# Altium footprint library All.PcbLib: 21 footprints (part 1 of 2)
Each footprint in its own frame and in the unit in brackets; x right, y up, seen from the top. Pads: shape width x height; smd on the part's side, far side on the other; paste and mask are expansions set on the pad; w line width, h text height; cw(c..) or ccw(c..) is an arc to the next point about the centre after c.
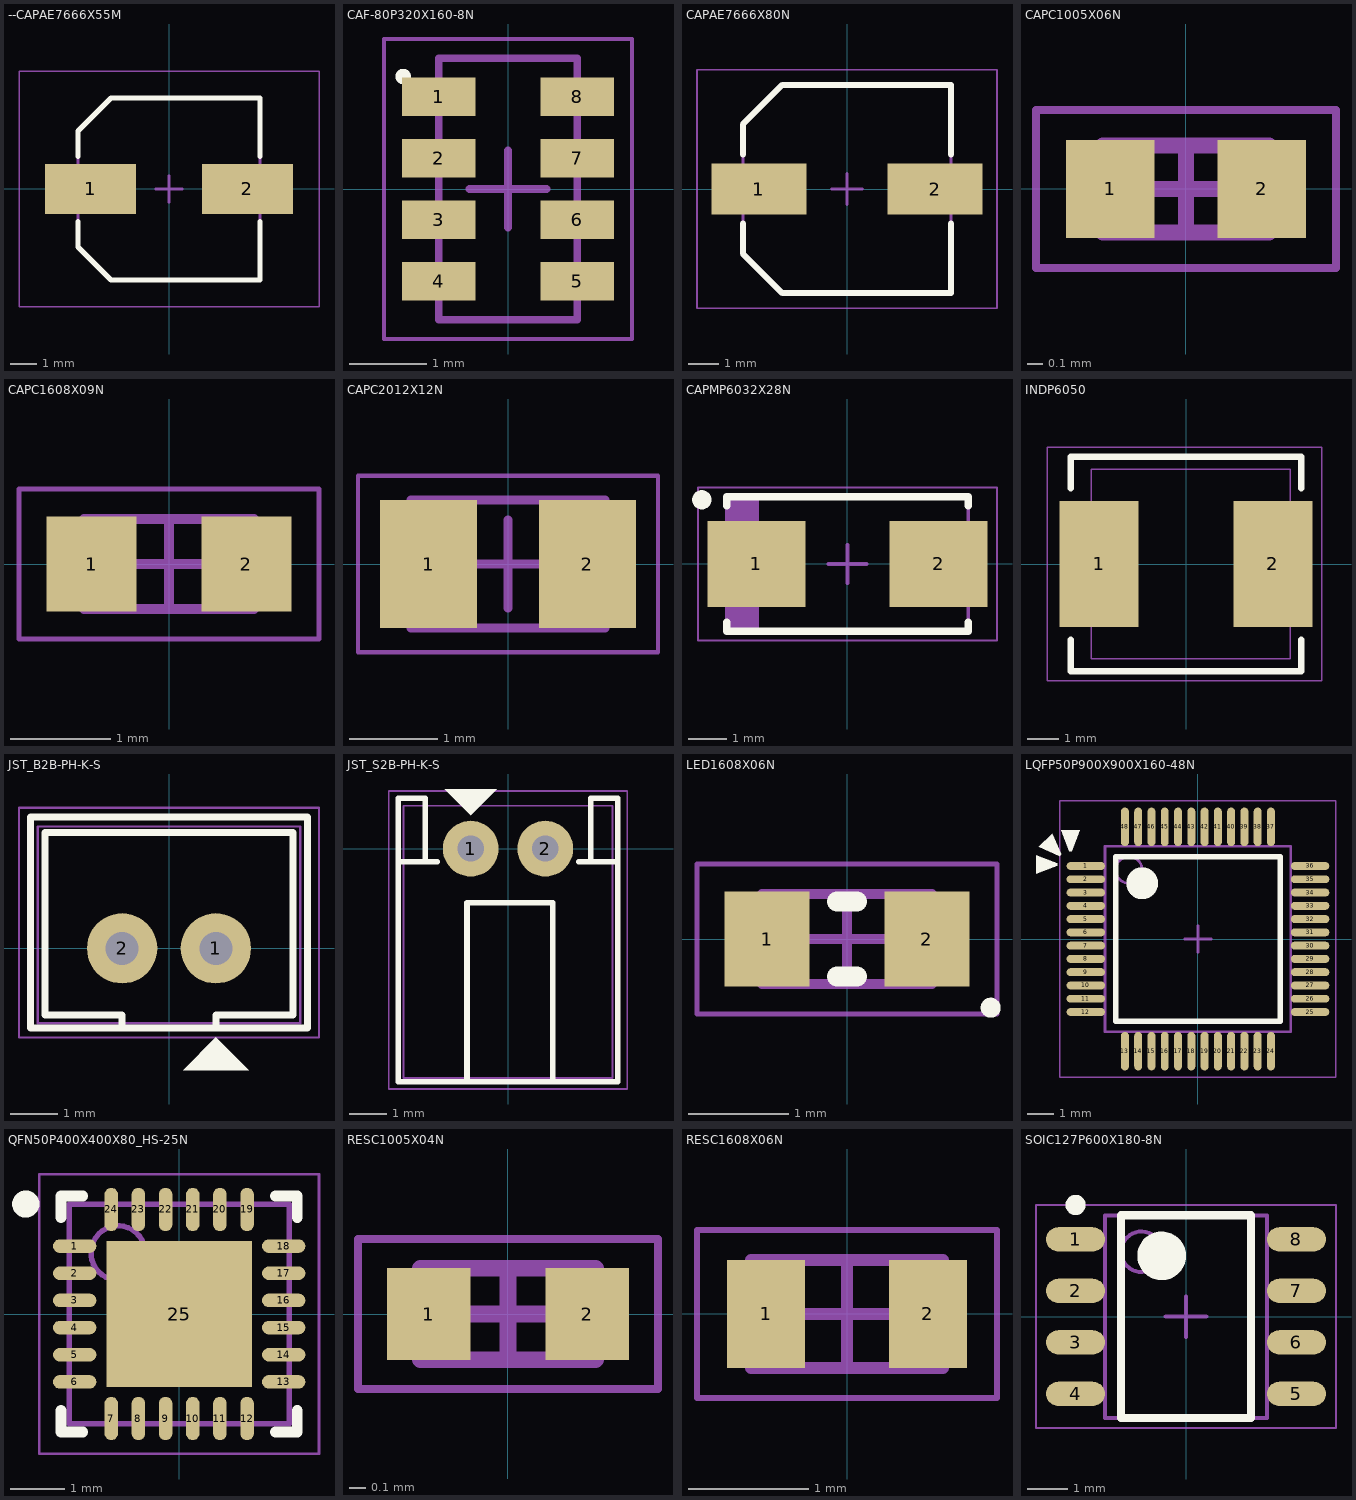
[diagram p0: the footprints below, top view; thin cyan lines are the x and y axes]

## --CAPAE7666X55M [mm] "Aluminum Electrolytic Capacitor, Body 6,60x6,60x5,50mm, IPC Low Density"
height 5.5
pads (2):
  rect 3.4x1.85 smd: 1(-2.925,0) 2(2.925,0)
Top Overlay:
  lines w0.2: -3.4,-1.225 -3.4,-2.163 -2.163,-3.4 3.4,-3.4 3.4,-1.225 ; -3.4,1.225 -3.4,2.163 -2.163,3.4 3.4,3.4 3.4,1.225
Top Assembly:
  lines w0.1: -3.4,-2.163 -2.163,-3.4 3.4,-3.4 3.4,3.4 -2.163,3.4 -3.4,2.163 -3.4,-2.163
Top Courtyard:
  lines w0.05: -5.6,-4.4 -5.6,4.4 5.6,4.4 5.6,-4.4 -5.6,-4.4
  lines w0.1: -0.5,0 0.5,0 ; 0,-0.5 0,0.5
3D body "CAPAE7666X55M.step": height 5.5, standoff -0.8, extent -3.8,-3.4 3.8,3.4

## CAF-80P320X160-8N [mm] "Chip Array, Flat, 8-Leads, Pitch 0,80mm,  Body 3,20x1,60mm,  IPC Medium Density"
height 0.9
pads (8):
  rect 0.95x0.5 smd: 1(-0.9,1.2) 2(-0.9,0.4) 3(-0.9,-0.4) 4(-0.9,-1.2) 5(0.9,-1.2) 6(0.9,-0.4) 7(0.9,0.4) 8(0.9,1.2)
Top Overlay:
  circle w0.1: c-1.362,1.463 r0.05
Top Assembly:
  lines w0.1: -0.9,-1.7 -0.9,1.7 0.9,1.7 0.9,-1.7 -0.9,-1.7
Top Courtyard:
  lines w0.05: -1.61,-1.95 -1.61,1.95 1.61,1.95 1.61,-1.95 -1.61,-1.95
  lines w0.1: -0.5,0 0.5,0 ; 0,-0.5 0,0.5
3D body "CAF-80P320X160-8N.step": height 0.9, standoff 0, extent -0.95,-1.7 0.95,1.7

## CAPAE7666X80N [mm] "Aluminum Electrolytic Capacitor, Body 6,60x6,60x8,00mm, IPC Medium Density"
height 8
pads (2):
  rect 3.1x1.65 smd: 1(-2.875,0) 2(2.875,0)
Top Overlay:
  lines w0.2: -3.4,-1.125 -3.4,-2.113 -2.113,-3.4 3.4,-3.4 3.4,-1.125 ; -3.4,1.125 -3.4,2.113 -2.113,3.4 3.4,3.4 3.4,1.125
Top Assembly:
  lines w0.1: -3.4,-2.113 -3.4,2.113 -2.113,3.4 3.4,3.4 3.4,-3.4 -2.113,-3.4 -3.4,-2.113
Top Courtyard:
  lines w0.05: -4.9,-3.9 4.9,-3.9 4.9,3.9 -4.9,3.9 -4.9,-3.9
  lines w0.1: -0.5,0 0.5,0 ; 0,-0.5 0,0.5
3D body "CAPAE7666X80N.step": height 8, standoff 0, extent -3.8,-3.4 3.8,3.4

## CAPC1005X06N [mm] "Chip Capacitor, 2-Leads, Body 1,00x0,50mm, IPC Medium Density"
height 0.55
pads (2):
  rect 0.56x0.62 smd: 1(-0.48,0) 2(0.48,0)
Top Assembly:
  lines w0.1: -0.525,-0.275 0.525,-0.275 0.525,0.275 -0.525,0.275 -0.525,-0.275
Top Courtyard:
  lines w0.05: -0.95,-0.5 0.95,-0.5 0.95,0.5 -0.95,0.5 -0.95,-0.5
  lines w0.1: -0.275,0 0.275,0 ; 0,-0.275 0,0.275
3D body "CAPC1005X06N.step": height 0.55, standoff 0, extent -0.525,-0.275 0.525,0.275

## CAPC1608X09N [mm] "Chip Capacitor, 2-Leads, Body 1,60x0,80mm, IPC Medium Density"
height 0.9
pads (2):
  rect 0.9x0.95 smd: 1(-0.775,0) 2(0.775,0)
Top Assembly:
  lines w0.1: -0.85,-0.45 -0.85,0.45 0.85,0.45 0.85,-0.45 -0.85,-0.45
Top Courtyard:
  lines w0.05: -1.5,-0.75 -1.5,0.75 1.5,0.75 1.5,-0.75 -1.5,-0.75
  lines w0.1: -0.45,0 0.45,0 ; 0,-0.45 0,0.45
3D body "CAPC1608X09N.step": height 0.9, standoff 0, extent -0.85,-0.45 0.85,0.45

## CAPC2012X12N [mm] "Chip Capacitor, 2-Leads, Body 2,00x1,25mm, IPC Medium Density"
height 1.25
pads (2):
  rect 1.1x1.45 smd: 1(-0.9,0) 2(0.9,0)
Top Assembly:
  lines w0.1: -1.1,-0.725 -1.1,0.725 1.1,0.725 1.1,-0.725 -1.1,-0.725
Top Courtyard:
  lines w0.05: -1.7,-1 -1.7,1 1.7,1 1.7,-1 -1.7,-1
  lines w0.1: -0.5,0 0.5,0 ; 0,-0.5 0,0.5
3D body "CAPC2012X12N.step": height 1.25, standoff 0, extent -1.1,-0.725 1.1,0.725

## CAPMP6032X28N [mm] "Molded Capacitor, 2-Leads, Body 6,00x3,20mm, IPC Medium Density"
height 2.8
pads (2):
  rect 2.55x2.25 smd: 1(-2.375,0) 2(2.375,0)
Top Overlay:
  circle w0.25: c-3.8,1.675 r0.125
  lines w0.2: -3.15,-1.525 -3.15,-1.75 3.15,-1.75 3.15,-1.525 ; -3.15,1.525 -3.15,1.75 3.15,1.75 3.15,1.525
Top Assembly:
  rectangle: -3.15,-1.75 -2.303,1.75
  lines w0.1: -3.15,-1.75 -3.15,1.75 3.15,1.75 3.15,-1.75 -3.15,-1.75
Top Courtyard:
  lines w0.05: -3.9,-2 -3.9,2 3.9,2 3.9,-2 -3.9,-2
  lines w0.1: -0.5,0 0.5,0 ; 0,-0.5 0,0.5
3D body "CAPMP6032X28N.step": height 2.8, standoff 0, extent -3.37,-1.75 3.37,1.75

## INDP6050 [mm] "Chip Inductor, Body 1.0x0.5mm, IPC High Density"
height 0.55
pads (2):
  rect 2.5x4 smd: 1(-2.75,0) 2(2.75,0)
Top Overlay:
  lines w0.2: -3.65,-2.4 -3.65,-3.4 3.65,-3.4 3.65,-2.4 ; -3.65,2.4 -3.65,3.4 3.65,3.4 3.65,2.4
Top Assembly:
  lines w0.05: -3,-3 3.3,-3 3.3,3 -3,3 -3,-3
Top Courtyard:
  lines w0.05: -4.4,-3.7 4.3,-3.7 4.3,3.7 -4.4,3.7 -4.4,-3.7
3D body "SRN6045 Series.STEP": height 4.5, standoff 0, extent -3.023,-3 3.277,3

## JST_B2B-PH-K-S [mm] "JST PH series 2.0mm pitch 2 pins"
pads (2):
  round 1.5 hole 0.7 mask-0.1: 1(1,0) 2(-1,0)
Top Overlay:
  region: 1,-1.9 0.3,-2.6 1.7,-2.6
  lines w0.15: -1,-1.7 -1,-1.425 -2.65,-1.425 -2.65,2.475 2.65,2.475 2.65,-1.425 1,-1.425 1,-1.7 ; -2.95,-1.7 -2.95,2.8 2.95,2.8 2.95,-1.7 -2.95,-1.7
Top Assembly:
  lines w0.05: -2.8,-1.6 -2.8,2.6 2.8,2.6 2.8,-1.6 -2.8,-1.6
Top Courtyard:
  lines w0.05: -3.2,-1.9 -3.2,3 3.2,3 3.2,-1.9 -3.2,-1.9
3D body "PHR-2.STEP": height 8.72, standoff 1.88, extent -2.9,-1.6 2.9,2.9
3D body "B2B-PH-K-S(LF)(SN)--3DModel-STEP-56544.STEP": height 6.01, standoff -3.39, extent -2.95,-1.7 2.95,2.8

## JST_S2B-PH-K-S [mm]
pads (2):
  round 1.5 hole 0.7 mask-0.1: 1(-1,0) 2(1,0)
Top Overlay:
  region: -1,0.9 -0.3,1.6 -1.7,1.6
  lines w0.15: -2.95,-0.35 -1.9,-0.35 ; -2.225,-0.35 -2.225,1.35 -2.95,1.35 -2.95,-6.25 2.95,-6.25 2.95,1.35 2.225,1.35 2.225,-0.35 ; -1.1,-6.25 -1.1,-1.45 1.2,-1.45 1.2,-6.25 ; 1.9,-0.35 2.95,-0.35
Top Assembly:
  lines w0.05: -2.8,-6.15 2.8,-6.15 2.8,1.15 -2.8,1.15 -2.8,-6.15
Top Courtyard:
  lines w0.05: -3.2,-6.45 3.2,-6.45 3.2,1.55 -3.2,1.55 -3.2,-6.45
3D body "S2B-PH-K-S(LF)(SN)--3DModel-STEP-1.STEP": height 4.81, standoff -3.37, extent -2.95,-6.25 2.95,1.35
3D body "PHR-2.STEP": height 4.82, standoff 0.33, extent -2.9,-8.825 2.9,-1.975

## LED1608X06N [mm] "Chip Diode, 2-Leads, Body 1,60x0,80mm, IPC Medium Density"
height 0.55
pads (2):
  rect 0.85x0.95 smd: 1(-0.8,0) 2(0.8,0)
Top Overlay:
  circle w0.1: c1.437,-0.687 r0.05
  lines w0.2: -0.1,-0.375 0.1,-0.375 ; -0.1,0.375 0.1,0.375
Top Assembly:
  lines w0.1: -0.85,-0.45 0.85,-0.45 0.85,0.45 -0.85,0.45 -0.85,-0.45
Top Courtyard:
  lines w0.05: -1.5,-0.75 1.5,-0.75 1.5,0.75 -1.5,0.75 -1.5,-0.75
  lines w0.1: -0.45,0 0.45,0 ; 0,-0.45 0,0.45
3D body "LED0603(Y).x_b": height 0.6, standoff 0, extent -0.81,-0.4 0.81,0.4

## LQFP50P900X900X160-48N [mm] "LQFP, 48-Leads, Body 7,00x7,00mm, Pitch 0,50mm, IPC Medium Density"
height 1.6
pads (48):
  oval 1.45x0.3 smd: 1(-4.225,2.75) 2(-4.225,2.25) 3(-4.225,1.75) 4(-4.225,1.25) 5(-4.225,0.75) 6(-4.225,0.25) 7(-4.225,-0.25) 8(-4.225,-0.75) 9(-4.225,-1.25) 10(-4.225,-1.75) 11(-4.225,-2.25) 12(-4.225,-2.75) 25(4.225,-2.75) 26(4.225,-2.25) 27(4.225,-1.75) 28(4.225,-1.25) 29(4.225,-0.75) 30(4.225,-0.25) 31(4.225,0.25) 32(4.225,0.75) 33(4.225,1.25) 34(4.225,1.75) 35(4.225,2.25) 36(4.225,2.75)
  oval 0.3x1.45 smd: 13(-2.75,-4.225) 14(-2.25,-4.225) 15(-1.75,-4.225) 16(-1.25,-4.225) 17(-0.75,-4.225) 18(-0.25,-4.225) 19(0.25,-4.225) 20(0.75,-4.225) 21(1.25,-4.225) 22(1.75,-4.225) 23(2.25,-4.225) 24(2.75,-4.225) 37(2.75,4.225) 38(2.25,4.225) 39(1.75,4.225) 40(1.25,4.225) 41(0.75,4.225) 42(0.25,4.225) 43(-0.25,4.225) 44(-0.75,4.225) 45(-1.25,4.225) 46(-1.75,4.225) 47(-2.25,4.225) 48(-2.75,4.225)
Top Overlay:
  circle w0.6: c-2.1,2.1 r0.3
  region: -6.1,2.45 -6.1,3.15 -5.3,2.85 -5.3,2.75
  region: -5.15,4.1 -4.45,4.1 -4.75,3.3 -4.85,3.3
  region: -5.989,3.477 -5.494,3.972 -5.14,3.194 -5.211,3.123
  lines w0.2: -3.1,-3.1 3.1,-3.1 3.1,3.1 -3.1,3.1 -3.1,-3.1
Top Assembly:
  circle w0.1: c-2.6,2.6 r0.5
  lines w0.1: -3.5,-3.5 3.5,-3.5 3.5,3.5 -3.5,3.5 -3.5,-3.5
Top Courtyard:
  lines w0.05: -5.2,-5.2 5.2,-5.2 5.2,5.2 -5.2,5.2 -5.2,-5.2
  lines w0.1: -0.5,0 0.5,0 ; 0,-0.5 0,0.5
3D body "LQFP50P900X900X160-48N.step": height 1.6, standoff 0, extent -4.5,-4.5 4.5,4.5

## QFN50P400X400X80_HS-25N [mm] "QFN, 24-Leads, Body 4,00x4,00mm, Pitch 0,50mm, Thermal Pad 2,68x2,68mm, IPC Medium Density"
height 0.8
pads (25):
  oval 0.8x0.25 smd: 1(-1.925,1.25) 2(-1.925,0.75) 3(-1.925,0.25) 4(-1.925,-0.25) 5(-1.925,-0.75) 6(-1.925,-1.25) 13(1.925,-1.25) 14(1.925,-0.75) 15(1.925,-0.25) 16(1.925,0.25) 17(1.925,0.75) 18(1.925,1.25)
  oval 0.25x0.8 smd: 7(-1.25,-1.925) 8(-0.75,-1.925) 9(-0.25,-1.925) 10(0.25,-1.925) 11(0.75,-1.925) 12(1.25,-1.925) 19(1.25,1.925) 20(0.75,1.925) 21(0.25,1.925) 22(-0.25,1.925) 23(-0.75,1.925) 24(-1.25,1.925)
  rect 2.68x2.68 smd: 25(0,0)
Top Overlay:
  circle w0.25: c-2.825,2.025 r0.125
  lines w0.2: -2.175,-1.775 -2.175,-2.175 -1.775,-2.175 ; -2.175,1.775 -2.175,2.175 -1.775,2.175 ; 1.775,-2.175 2.175,-2.175 2.175,-1.775 ; 1.775,2.175 2.175,2.175 2.175,1.775
Top Assembly:
  circle w0.1: c-1.125,1.125 r0.5
  lines w0.1: -2.025,-2.025 -2.025,2.025 2.025,2.025 2.025,-2.025 -2.025,-2.025
Top Courtyard:
  lines w0.05: -2.575,-2.575 -2.575,2.575 2.575,2.575 2.575,-2.575 -2.575,-2.575
  lines w0.1: -0.5,0 0.5,0 ; 0,-0.5 0,0.5
3D body "QFN50P400X400X80_HS-25N.step": height 0.8, standoff 0, extent -2.026,-2.026 2.026,2.026

## RESC1005X04N [mm] "Chip Resistor, 2-Leads, Body 1,00x0,50mm, IPC Medium Density"
height 0.4
pads (2):
  rect 0.5x0.55 smd: 1(-0.475,0) 2(0.475,0)
Top Assembly:
  lines w0.1: -0.525,-0.275 -0.525,0.275 0.525,0.275 0.525,-0.275 -0.525,-0.275
Top Courtyard:
  lines w0.05: -0.9,-0.45 -0.9,0.45 0.9,0.45 0.9,-0.45 -0.9,-0.45
  lines w0.1: -0.275,0 0.275,0 ; 0,-0.275 0,0.275
3D body "RESC1005X04N.step": height 0.4, standoff 0, extent -0.525,-0.275 0.525,0.275

## RESC1608X06N [mm] "Chip Resistor, 2-Leads, Body 1,55x0,80mm, IPC Medium Density"
height 0.55
pads (2):
  rect 0.65x0.9 smd: 1(-0.675,0) 2(0.675,0)
Top Assembly:
  lines w0.1: -0.8,-0.45 -0.8,0.45 0.8,0.45 0.8,-0.45 -0.8,-0.45
Top Courtyard:
  lines w0.05: -1.25,-0.7 -1.25,0.7 1.25,0.7 1.25,-0.7 -1.25,-0.7
  lines w0.1: -0.45,0 0.45,0 ; 0,-0.45 0,0.45
3D body "RESC1608X06N.step": height 0.55, standoff 0, extent -0.8,-0.45 0.8,0.45

## SOIC127P600X180-8N [mm] "SOIC, 8-Leads, Body 4,90x3,90mm, Pitch 1,27mm, IPC Medium Density"
height 1.8
pads (8):
  oval 1.45x0.6 smd: 1(-2.725,1.905) 2(-2.725,0.635) 3(-2.725,-0.635) 4(-2.725,-1.905) 5(2.725,-1.905) 6(2.725,-0.635) 7(2.725,0.635) 8(2.725,1.905)
Top Overlay:
  circle w0.6: c-0.6,1.5 r0.3
  circle w0.25: c-2.725,2.755 r0.125
  lines w0.2: -1.6,-2.5 1.6,-2.5 1.6,2.5 -1.6,2.5 -1.6,-2.5
Top Assembly:
  circle w0.1: c-1.1,1.6 r0.5
  lines w0.1: -2,-2.5 2,-2.5 2,2.5 -2,2.5 -2,-2.5
Top Courtyard:
  lines w0.05: -3.7,-2.75 3.7,-2.75 3.7,2.75 -3.7,2.75 -3.7,-2.75
  lines w0.1: -0.5,0 0.5,0 ; 0,-0.5 0,0.5
3D body "SOIC127P600X180-8N.step": height 1.8, standoff 0, extent -3,-2.5 3,2.5